# EAGLE library part SN74LVC2G241 (library custom)
Tri-State Buffer Dual 32mA 1.65-5.5V
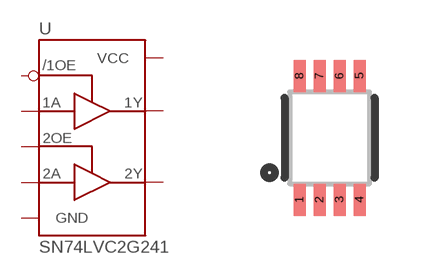
[diagram p62: symbol with the pads of 8-VFSOP; footprint 8-VFSOP]

Designator prefix U

## SN74LVC2G241  [8-VFSOP]
1  1OEN
2  1A
3  2Y
4  GND
5  2A
6  1Y
7  2OE
8  VCC

## Footprint 8-VFSOP (pad centres in mm)
smd 0.3 x 0.8: 1 -0.75,-1.55; 2 -0.25,-1.55; 3 0.25,-1.55; 4 0.75,-1.55; 5 0.75,1.55; 6 0.25,1.55; 7 -0.25,1.55; 8 -0.75,1.55